# Altium schematic symbol library ERF8-020-XX.X-X-DV-L.SCHLIB: 1 symbol
Pins are listed as number, name and electrical type; pins without a type are passive.

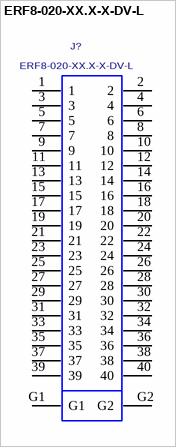
[diagram p0: symbol ERF8-020-XX.X-X-DV-L]

## ERF8-020-XX.X-X-DV-L
designator J?
0.8mm Edge Rate Terminal Assembly, Double Vertical Row, 40 Pins.; MANUFACTURER: SAMTEC; PCB DECAL: ERM8-020-XX.X-X-DV-L; CREATED: August 17, 2016 - Wendy Xin
pins: 1, 2, 3, 4, 5, 6, 7, 8, 9, 10, 11, 12, 13, 14, 15, 16, 17, 18, 19, 20, 21, 22, 23, 24, 25, 26, 27, 28, 29, 30, 31, 32, 33, 34, 35, 36, 37, 38, 39, 40, G1, G2
1 alternate drawing of the same symbol